# EAGLE library part 25Q64 (library ds_ic_memory)
1.8V 64M-BIT SERIAL FLASH MEMORY WITH DUAL/QUAD SPI & QPI
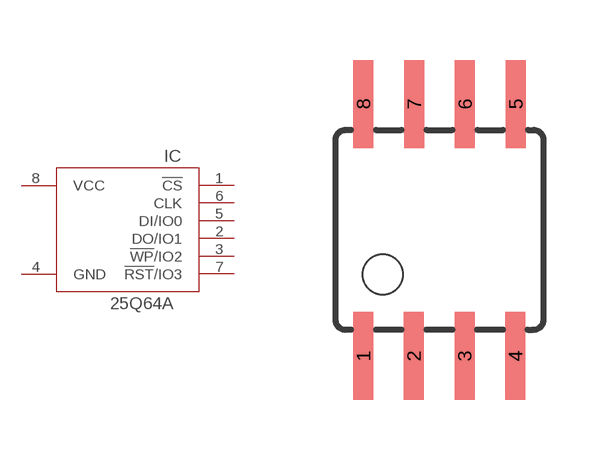
[diagram p11: symbol with the pads of SOIC8; footprint SOIC8]

Designator prefix IC

## 25Q64  [SOIC8]
1  !CS
2  DO/IO1
3  !WP!/IO2
4  GND
5  DI/IO0
6  CLK
7  !RST!/IO3
8  VCC

## Footprint SOIC8 (pad centres in mm)
smd 0.5 x 2.2: 1 -1.905,-3.154; 2 -0.645,-3.154; 3 0.625,-3.154; 4 1.895,-3.154; 5 1.905,3.154; 6 0.635,3.154; 7 -0.635,3.154; 8 -1.905,3.154